# EAGLE library part SFW8S-2STE1LF (library FCI_By_element14_Batch_1)
FFC/FPC CONNECTOR, RECEPTACLE 8POS 1ROW
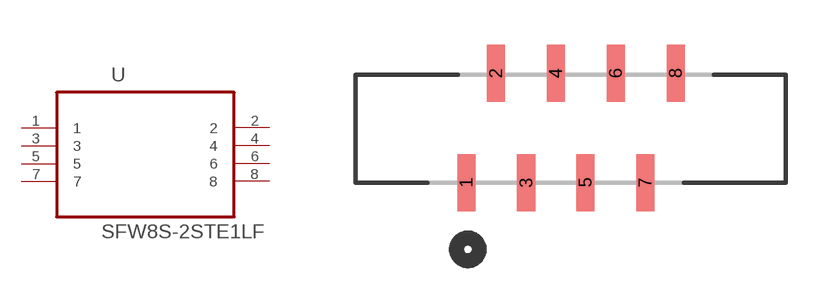
[diagram p80: symbol with the pads of FCI_SFW8S-2STE1LF; footprint FCI_SFW8S-2STE1LF]

Designator prefix U

## SFW8S-2STE1LF (MPN: SFW8S-2STE1LF; OC_FARNELL: 1632215; OC_NEWARK: 62K5654; PACKAGE: CONNECTOR-8POS; SUPPLIER: FCI)  [FCI_SFW8S-2STE1LF]
1  1  pas
2  2  pas
3  3  pas
4  4  pas
5  5  pas
6  6  pas
7  7  pas
8  8  pas

## Footprint FCI_SFW8S-2STE1LF (pad centres in mm)
smd 0.61 x 1.905: 1 0,0; 2 0.991,3.658; 3 2.007,0; 4 2.997,3.658; 5 3.988,0; 6 5.004,3.658; 7 5.994,0; 8 7.01,3.658